# Altium schematic symbol library SN74AUC1G07DBVR.Schlib: 1 symbol
Pins are listed as number, name and electrical type; pins without a type are passive.

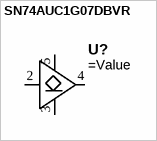
[diagram p0: symbol SN74AUC1G07DBVR]

## SN74AUC1G07DBVR
designator U?
IC BUFF NON-INVERT 2.7 V SOT23-5
pins: 2 A, 3 GND, 4 Y, 5 VCC